# Altium schematic symbol library IR2181.SchLib: 1 symbol
Pins are listed as number, name and electrical type; pins without a type are passive.

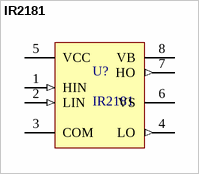
[diagram p0: symbol IR2181]

## IR2181
designator U?
IR2181 Driver
footprint SO8-150
footprint SOIC-8
pins: 1 HIN (in), 2 LIN (in), 3 COM, 4 LO (out), 5 VCC (power), 6 VS (power), 7 HO (out), 8 VB (power)